# EAGLE library part 74LVC*2T45 (library SparkFun-IC-Logic)
Nexperia Dual Supply Translating Transceiver The 74LVC2T45 and 74LVCH2T45 are dual bit, dual supply translating transceivers with 3-state outputs that enable bidirectional level translation. They feature two 2-bits input-output ports (nA and nB), a direction control input (DIR) and dual supply pins (VCC(A) and VCC(B)). Both VCC(A) and VCC(B) can be supplied at any voltage between 1.2 V and 5.5 V making the device suitable for translating between any of the low voltage nodes (1.2 V, 1.5 V, 1.8 V, 2.5 V, 3.3 V and 5.0 V). Pins nA and DIR are referenced to VCC(A) and pins nB are referenced to VCC(B). A HIGH on DIR allows transmission from nA to nB and a LOW on DIR allows transmission from nB to nA. Datasheet <https://assets.nexperia.com/documents/data-sheet/74LVC_LVCH2T45.pdf>
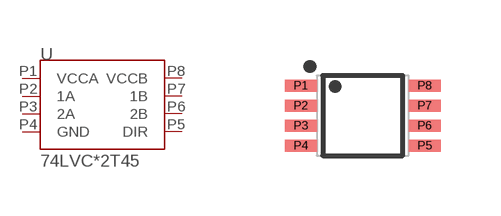
[diagram p12: symbol with the pads of VSSOP_8PIN; footprint VSSOP_8PIN]

Designator prefix U

## 74LVC2T45  [VSSOP_8PIN]
P1  VCCA
P2  1A
P3  2A
P4  GND
P5  DIR
P6  2B
P7  1B
P8  VCCB

## Footprint VSSOP_8PIN (pad centres in mm)
VSSOP 8-Pin Physical Characteristics Lead to Lead SIze: 3.2 x 2.1 mm Body Size: 2.1 x 2.4 x .9 mm Lead: .25 x .8 mm Pitch: .5 mm
smd 0.8 x 0.3: P1 -1.55,0.75; P2 -1.55,0.25; P3 -1.55,-0.25; P4 -1.55,-0.75; P5 1.55,-0.75; P6 1.55,-0.25; P7 1.55,0.25; P8 1.55,0.75